# Altium footprint library MBS.PcbLib: 2 footprints
Each footprint in its own frame and in the unit in brackets; x right, y up, seen from the top. Pads: shape width x height; smd on the part's side, far side on the other; paste and mask are expansions set on the pad; w line width, h text height; cw(c..) or ccw(c..) is an arc to the next point about the centre after c.
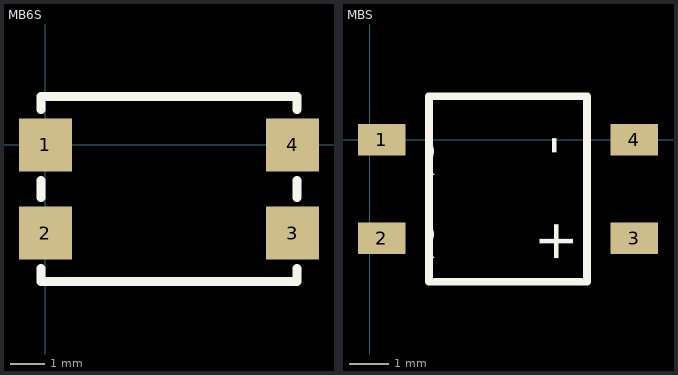
[diagram p0: the footprints below, top view; thin cyan lines are the x and y axes]

## MB6S [mil]
pads (4):
  rect 60x60 smd: 1(0,0) 2(0,-100) 3(280,-100) 4(280,0)
Top Overlay:
  lines w10: -5,-140 -5,-155 285,-155 285,-140 ; -5,-60 -5,-40 ; -5,40 -5,55 285,55 285,40 ; 285,-60 285,-40
3D body: height 118.5, standoff 3.94, extent 1.41,-147.45 278.58,47.43

## MBS [mm]
pads (4):
  rect 1.2x0.8 smd mask+0.05: 1(0.3,0) 2(0.3,-2.5) 3(6.7,-2.5) 4(6.7,0)
Top Overlay:
  lines w0.2: 1.5,-3.6 5.5,-3.6 5.5,1.1 1.5,1.1 1.5,-3.6
  text "-" at 4.3,0.1 h1
  text "+" at 4.3,-2 h1
  text "~" at 1.1,-2 h1
  text "~" at 1.1,0.1 h1
3D body: height 2.1, standoff 0, extent 0,-3 7,0.6